# Altium schematic symbol library Triac_Thyristor.SchLib: 52 symbols
Pins are listed as number, name and electrical type; pins without a type are passive.

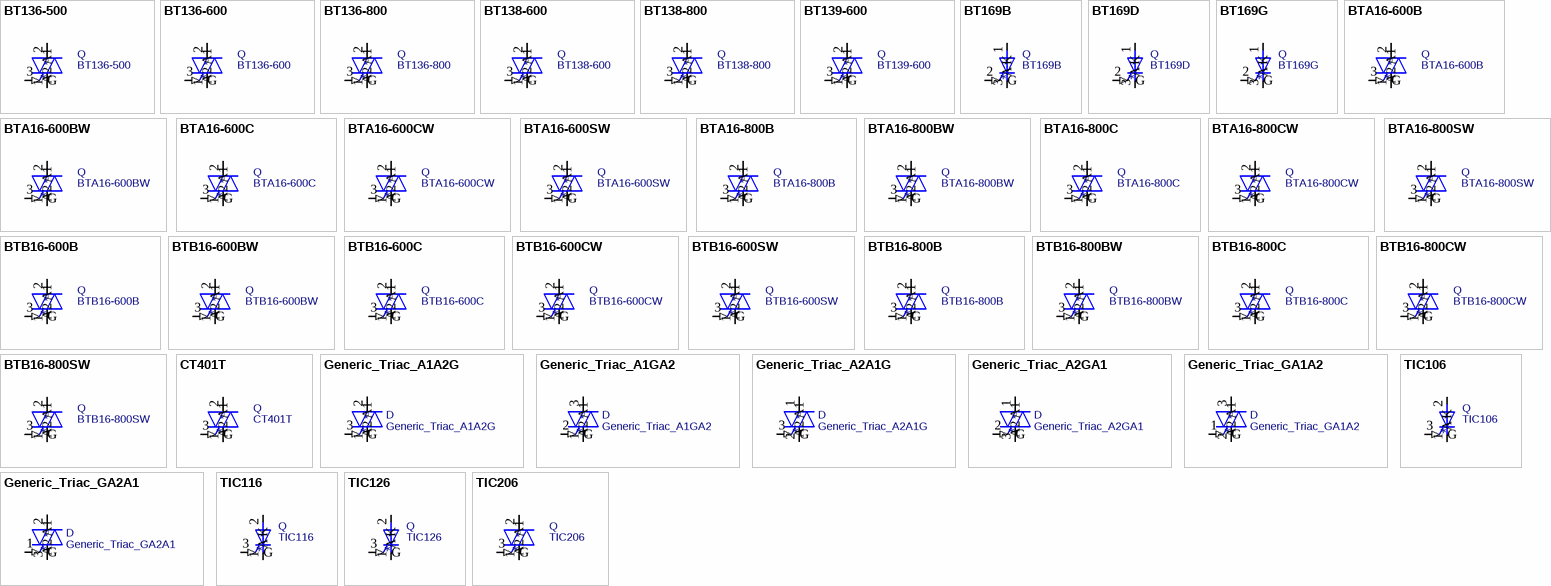
[diagram p0: symbols BT136-500 to TIC206]

## BT136-500
designator *  value BT136-500  Reference: Q
4A RMS, 500V Off-State Voltage, Triac, TO-220; ki_fp_filters: TO?220*; Footprint: Package_TO_SOT_THT:TO-220-3_Vertical; Datasheet: http://www.micropik.com/PDF/BT136-600.pdf; Description_: 4A RMS, 500V Off-State Voltage, Triac, TO-220; ki_keywords: Triac
pins: 1 A1, 2 A2, 3 G (in)

## BT136-600
designator *  value BT136-600  Reference: Q
4A RMS, 500V Off-State Voltage, Triac, TO-220; ki_fp_filters: TO?220*; Footprint: Package_TO_SOT_THT:TO-220-3_Vertical; Datasheet: http://www.micropik.com/PDF/BT136-600.pdf; Description_: 4A RMS, 500V Off-State Voltage, Triac, TO-220; ki_keywords: Triac
pins: 1 A1, 2 A2, 3 G (in)

## BT136-800
designator *  value BT136-800  Reference: Q
4A RMS, 800V Off-State Voltage, Triac, TO-220; ki_fp_filters: TO?220*; Footprint: Package_TO_SOT_THT:TO-220-3_Vertical; Datasheet: http://www.micropik.com/PDF/BT136-600.pdf; Description_: 4A RMS, 800V Off-State Voltage, Triac, TO-220; ki_keywords: Triac
pins: 1 A1, 2 A2, 3 G (in)

## BT138-600
designator *  value BT138-600  Reference: Q
12A RMS, 600V Off-State Voltage, Triac, TO-220; ki_fp_filters: TO?220*; Footprint: Package_TO_SOT_THT:TO-220-3_Vertical; Datasheet: https://assets.nexperia.com/documents/data-sheet/BT138_SER_D_E.pdf; Description_: 12A RMS, 600V Off-State Voltage, Triac, TO-220; ki_keywords: Triac
pins: 1 A1, 2 A2, 3 G (in)

## BT138-800
designator *  value BT138-800  Reference: Q
12A RMS, 800V Off-State Voltage, Triac, TO-220; ki_fp_filters: TO?220*; Footprint: Package_TO_SOT_THT:TO-220-3_Vertical; Datasheet: https://assets.nexperia.com/documents/data-sheet/BT138_SER_D_E.pdf; Description_: 12A RMS, 800V Off-State Voltage, Triac, TO-220; ki_keywords: Triac
pins: 1 A1, 2 A2, 3 G (in)

## BT139-600
designator *  value BT139-600  Reference: Q
16A RMS, 600V Off-State Voltage, 4Q Triac, TO-220; ki_fp_filters: TO?220*; Footprint: Package_TO_SOT_THT:TO-220-3_Vertical; Datasheet: https://www.rapidonline.com/pdf/47-3240.pdf; Description_: 16A RMS, 600V Off-State Voltage, 4Q Triac, TO-220; ki_keywords: Triac
pins: 1 A1, 2 A2, 3 G (in)

## BT169B
designator *  value BT169B  Reference: Q
0.5A Ion, 200V Voff, Thyristors logic level, Silicon Controlled Rectifier (Thyristor), TO-92; ki_keywords: thyristor logic level; ki_fp_filters: TO?92*Inline*Narrow*; Footprint: Package_TO_SOT_THT:TO-92_Inline; Datasheet: https://media.digikey.com/pdf/Data%20Sheets/NXP%20PDFs/BT169_Series.pdf; Description_: 0.5A Ion, 200V Voff, Thyristors logic level, Silicon Controlled Rectifier (Thyristor), TO-92
pins: 1 A, 2 G (in), 3 K

## BT169D
designator *  value BT169D  Reference: Q
0.5A Ion, 400V Voff, Thyristors logic level, Silicon Controlled Rectifier (Thyristor), TO-92; ki_keywords: thyristor logic level; ki_fp_filters: TO?92*Inline*Narrow*; Footprint: Package_TO_SOT_THT:TO-92_Inline; Datasheet: https://media.digikey.com/pdf/Data%20Sheets/NXP%20PDFs/BT169_Series.pdf; Description_: 0.5A Ion, 400V Voff, Thyristors logic level, Silicon Controlled Rectifier (Thyristor), TO-92
pins: 1 A, 2 G (in), 3 K

## BT169G
designator *  value BT169G  Reference: Q
0.5A Ion, 600V Voff, Thyristors logic level, Silicon Controlled Rectifier (Thyristor), TO-92; ki_keywords: thyristor logic level; ki_fp_filters: TO?92*Inline*Narrow*; Footprint: Package_TO_SOT_THT:TO-92_Inline; Datasheet: https://media.digikey.com/pdf/Data%20Sheets/NXP%20PDFs/BT169_Series.pdf; Description_: 0.5A Ion, 600V Voff, Thyristors logic level, Silicon Controlled Rectifier (Thyristor), TO-92
pins: 1 A, 2 G (in), 3 K

## BTA16-600B
designator *  value BTA16-600B  Reference: Q
16A RMS, 600V Off-State Voltage, 50mA Sensitivity, Insulated, Triac, TO-220; ki_fp_filters: TO?220*; Footprint: Package_TO_SOT_THT:TO-220-3_Vertical; Datasheet: https://www.st.com/resource/en/datasheet/bta16.pdf; Description_: 16A RMS, 600V Off-State Voltage, 50mA Sensitivity, Insulated, Triac, TO-220; ki_keywords: Triac
pins: 1 A1, 2 A2, 3 G (in)

## BTA16-600BW
designator *  value BTA16-600BW  Reference: Q
16A RMS, 600V Off-State Voltage, 50mA Sensitivity, Snubberless, Insulated, Triac, TO-220; ki_fp_filters: TO?220*; Footprint: Package_TO_SOT_THT:TO-220-3_Vertical; Datasheet: https://www.st.com/resource/en/datasheet/bta16.pdf; Description_: 16A RMS, 600V Off-State Voltage, 50mA Sensitivity, Snubberless, Insulated, Triac, TO-220; ki_keywords: Triac
pins: 1 A1, 2 A2, 3 G (in)

## BTA16-600C
designator *  value BTA16-600C  Reference: Q
16A RMS, 600V Off-State Voltage, 35mA Sensitivity, Insulated, Triac, TO-220; ki_fp_filters: TO?220*; Footprint: Package_TO_SOT_THT:TO-220-3_Vertical; Datasheet: https://www.st.com/resource/en/datasheet/bta16.pdf; Description_: 16A RMS, 600V Off-State Voltage, 35mA Sensitivity, Insulated, Triac, TO-220; ki_keywords: Triac
pins: 1 A1, 2 A2, 3 G (in)

## BTA16-600CW
designator *  value BTA16-600CW  Reference: Q
16A RMS, 600V Off-State Voltage, 35mA Sensitivity, Snubberless, Insulated, Triac, TO-220; ki_fp_filters: TO?220*; Footprint: Package_TO_SOT_THT:TO-220-3_Vertical; Datasheet: https://www.st.com/resource/en/datasheet/bta16.pdf; Description_: 16A RMS, 600V Off-State Voltage, 35mA Sensitivity, Snubberless, Insulated, Triac, TO-220; ki_keywords: Triac
pins: 1 A1, 2 A2, 3 G (in)

## BTA16-600SW
designator *  value BTA16-600SW  Reference: Q
16A RMS, 600V Off-State Voltage, 10mA Sensitivity, Snubberless, Insulated, Triac, TO-220; ki_fp_filters: TO?220*; Footprint: Package_TO_SOT_THT:TO-220-3_Vertical; Datasheet: https://www.st.com/resource/en/datasheet/bta16.pdf; Description_: 16A RMS, 600V Off-State Voltage, 10mA Sensitivity, Snubberless, Insulated, Triac, TO-220; ki_keywords: Triac
pins: 1 A1, 2 A2, 3 G (in)

## BTA16-800B
designator *  value BTA16-800B  Reference: Q
16A RMS, 800V Off-State Voltage, 50mA Sensitivity, Insulated, Triac, TO-220; ki_fp_filters: TO?220*; Footprint: Package_TO_SOT_THT:TO-220-3_Vertical; Datasheet: https://www.st.com/resource/en/datasheet/bta16.pdf; Description_: 16A RMS, 800V Off-State Voltage, 50mA Sensitivity, Insulated, Triac, TO-220; ki_keywords: Triac
pins: 1 A1, 2 A2, 3 G (in)

## BTA16-800BW
designator *  value BTA16-800BW  Reference: Q
16A RMS, 800V Off-State Voltage, 50mA Sensitivity, Snubberless, Insulated, Triac, TO-220; ki_fp_filters: TO?220*; Footprint: Package_TO_SOT_THT:TO-220-3_Vertical; Datasheet: https://www.st.com/resource/en/datasheet/bta16.pdf; Description_: 16A RMS, 800V Off-State Voltage, 50mA Sensitivity, Snubberless, Insulated, Triac, TO-220; ki_keywords: Triac
pins: 1 A1, 2 A2, 3 G (in)

## BTA16-800C
designator *  value BTA16-800C  Reference: Q
16A RMS, 800V Off-State Voltage, 35mA Sensitivity, Insulated, Triac, TO-220; ki_fp_filters: TO?220*; Footprint: Package_TO_SOT_THT:TO-220-3_Vertical; Datasheet: https://www.st.com/resource/en/datasheet/bta16.pdf; Description_: 16A RMS, 800V Off-State Voltage, 35mA Sensitivity, Insulated, Triac, TO-220; ki_keywords: Triac
pins: 1 A1, 2 A2, 3 G (in)

## BTA16-800CW
designator *  value BTA16-800CW  Reference: Q
16A RMS, 800V Off-State Voltage, 35mA Sensitivity, Snubberless, Insulated, Triac, TO-220; ki_fp_filters: TO?220*; Footprint: Package_TO_SOT_THT:TO-220-3_Vertical; Datasheet: https://www.st.com/resource/en/datasheet/bta16.pdf; Description_: 16A RMS, 800V Off-State Voltage, 35mA Sensitivity, Snubberless, Insulated, Triac, TO-220; ki_keywords: Triac
pins: 1 A1, 2 A2, 3 G (in)

## BTA16-800SW
designator *  value BTA16-800SW  Reference: Q
16A RMS, 800V Off-State Voltage, 10mA Sensitivity, Snubberless, Insulated, Triac, TO-220; ki_fp_filters: TO?220*; Footprint: Package_TO_SOT_THT:TO-220-3_Vertical; Datasheet: https://www.st.com/resource/en/datasheet/bta16.pdf; Description_: 16A RMS, 800V Off-State Voltage, 10mA Sensitivity, Snubberless, Insulated, Triac, TO-220; ki_keywords: Triac
pins: 1 A1, 2 A2, 3 G (in)

## BTB16-600B
designator *  value BTB16-600B  Reference: Q
16A RMS, 600V Off-State Voltage, 50mA Sensitivity, Non-Insulated, Triac, TO-220; ki_fp_filters: TO?220*; Footprint: Package_TO_SOT_THT:TO-220-3_Vertical; Datasheet: https://www.st.com/resource/en/datasheet/bta16.pdf; Description_: 16A RMS, 600V Off-State Voltage, 50mA Sensitivity, Non-Insulated, Triac, TO-220; ki_keywords: Triac
pins: 1 A1, 2 A2, 3 G (in)

## BTB16-600BW
designator *  value BTB16-600BW  Reference: Q
16A RMS, 600V Off-State Voltage, 50mA Sensitivity, Snubberless, Non-Insulated, Triac, TO-220; ki_fp_filters: TO?220*; Footprint: Package_TO_SOT_THT:TO-220-3_Vertical; Datasheet: https://www.st.com/resource/en/datasheet/bta16.pdf; Description_: 16A RMS, 600V Off-State Voltage, 50mA Sensitivity, Snubberless, Non-Insulated, Triac, TO-220; ki_keywords: Triac
pins: 1 A1, 2 A2, 3 G (in)

## BTB16-600C
designator *  value BTB16-600C  Reference: Q
16A RMS, 600V Off-State Voltage, 35mA Sensitivity, Non-Insulated, Triac, TO-220; ki_fp_filters: TO?220*; Footprint: Package_TO_SOT_THT:TO-220-3_Vertical; Datasheet: https://www.st.com/resource/en/datasheet/bta16.pdf; Description_: 16A RMS, 600V Off-State Voltage, 35mA Sensitivity, Non-Insulated, Triac, TO-220; ki_keywords: Triac
pins: 1 A1, 2 A2, 3 G (in)

## BTB16-600CW
designator *  value BTB16-600CW  Reference: Q
16A RMS, 600V Off-State Voltage, 35mA Sensitivity, Snubberless, Non-Insulated, Triac, TO-220; ki_fp_filters: TO?220*; Footprint: Package_TO_SOT_THT:TO-220-3_Vertical; Datasheet: https://www.st.com/resource/en/datasheet/bta16.pdf; Description_: 16A RMS, 600V Off-State Voltage, 35mA Sensitivity, Snubberless, Non-Insulated, Triac, TO-220; ki_keywords: Triac
pins: 1 A1, 2 A2, 3 G (in)

## BTB16-600SW
designator *  value BTB16-600SW  Reference: Q
16A RMS, 600V Off-State Voltage, 10mA Sensitivity, Snubberless, Non-Insulated, Triac, TO-220; ki_fp_filters: TO?220*; Footprint: Package_TO_SOT_THT:TO-220-3_Vertical; Datasheet: https://www.st.com/resource/en/datasheet/bta16.pdf; Description_: 16A RMS, 600V Off-State Voltage, 10mA Sensitivity, Snubberless, Non-Insulated, Triac, TO-220; ki_keywords: Triac
pins: 1 A1, 2 A2, 3 G (in)

## BTB16-800B
designator *  value BTB16-800B  Reference: Q
16A RMS, 800V Off-State Voltage, 50mA Sensitivity, Non-Insulated, Triac, TO-220; ki_fp_filters: TO?220*; Footprint: Package_TO_SOT_THT:TO-220-3_Vertical; Datasheet: https://www.st.com/resource/en/datasheet/bta16.pdf; Description_: 16A RMS, 800V Off-State Voltage, 50mA Sensitivity, Non-Insulated, Triac, TO-220; ki_keywords: Triac
pins: 1 A1, 2 A2, 3 G (in)

## BTB16-800BW
designator *  value BTB16-800BW  Reference: Q
16A RMS, 800V Off-State Voltage, 50mA Sensitivity, Snubberless, Non-Insulated, Triac, TO-220; ki_fp_filters: TO?220*; Footprint: Package_TO_SOT_THT:TO-220-3_Vertical; Datasheet: https://www.st.com/resource/en/datasheet/bta16.pdf; Description_: 16A RMS, 800V Off-State Voltage, 50mA Sensitivity, Snubberless, Non-Insulated, Triac, TO-220; ki_keywords: Triac
pins: 1 A1, 2 A2, 3 G (in)

## BTB16-800C
designator *  value BTB16-800C  Reference: Q
16A RMS, 800V Off-State Voltage, 35mA Sensitivity, Non-Insulated, Triac, TO-220; ki_fp_filters: TO?220*; Footprint: Package_TO_SOT_THT:TO-220-3_Vertical; Datasheet: https://www.st.com/resource/en/datasheet/bta16.pdf; Description_: 16A RMS, 800V Off-State Voltage, 35mA Sensitivity, Non-Insulated, Triac, TO-220; ki_keywords: Triac
pins: 1 A1, 2 A2, 3 G (in)

## BTB16-800CW
designator *  value BTB16-800CW  Reference: Q
16A RMS, 800V Off-State Voltage, 35mA Sensitivity, Snubberless, Non-Insulated, Triac, TO-220; ki_fp_filters: TO?220*; Footprint: Package_TO_SOT_THT:TO-220-3_Vertical; Datasheet: https://www.st.com/resource/en/datasheet/bta16.pdf; Description_: 16A RMS, 800V Off-State Voltage, 35mA Sensitivity, Snubberless, Non-Insulated, Triac, TO-220; ki_keywords: Triac
pins: 1 A1, 2 A2, 3 G (in)

## BTB16-800SW
designator *  value BTB16-800SW  Reference: Q
16A RMS, 800V Off-State Voltage, 10mA Sensitivity, Snubberless, Non-Insulated, Triac, TO-220; ki_fp_filters: TO?220*; Footprint: Package_TO_SOT_THT:TO-220-3_Vertical; Datasheet: https://www.st.com/resource/en/datasheet/bta16.pdf; Description_: 16A RMS, 800V Off-State Voltage, 10mA Sensitivity, Snubberless, Non-Insulated, Triac, TO-220; ki_keywords: Triac
pins: 1 A1, 2 A2, 3 G (in)

## CT401T
designator *  value CT401T  Reference: Q
1A RMS, 600-800V Off-State Voltage, 1.55V On-State Voltage, Triac, SOT-223; ki_fp_filters: SOT?223*; Footprint: Package_TO_SOT_SMD:SOT-223; Datasheet: https://www.jscj-elec.com/gallery//file/CT401T-600%20SOT-223-3LK%20V1.pdf; Description_: 1A RMS, 600-800V Off-State Voltage, 1.55V On-State Voltage, Triac, SOT-223; ki_keywords: Triac
pins: 1 A1, 2 A2, 3 G (in)

## Generic_Triac_A1A2G
designator *  value Generic_Triac_A1A2G  Reference: D
Triode for alternating current, anode1/anode2/gate; ki_keywords: TRIAC; Datasheet: ~; Description_: Triode for alternating current, anode1/anode2/gate
pins: 1 A1, 2 A2, 3 G (in)

## Generic_Triac_A1GA2
designator *  value Generic_Triac_A1GA2  Reference: D
Triode for alternating current, anode1/gate/anode2; ki_keywords: TRIAC; Datasheet: ~; Description_: Triode for alternating current, anode1/gate/anode2
pins: 1 A1, 2 G (in), 3 A2

## Generic_Triac_A2A1G
designator *  value Generic_Triac_A2A1G  Reference: D
Triode for alternating current, anode2/anode1/gate; ki_keywords: TRIAC; Datasheet: ~; Description_: Triode for alternating current, anode2/anode1/gate
pins: 1 A2, 2 A1, 3 G (in)

## Generic_Triac_A2GA1
designator *  value Generic_Triac_A2GA1  Reference: D
Triode for alternating current, anode2/gate/anode1; ki_keywords: TRIAC; Datasheet: ~; Description_: Triode for alternating current, anode2/gate/anode1
pins: 1 A2, 2 G (in), 3 A1

## Generic_Triac_GA1A2
designator *  value Generic_Triac_GA1A2  Reference: D
Triode for alternating current, gate/anode1/anode2; ki_keywords: TRIAC; Datasheet: ~; Description_: Triode for alternating current, gate/anode1/anode2
pins: 1 G (in), 2 A1, 3 A2

## Generic_Triac_GA2A1
designator *  value Generic_Triac_GA2A1  Reference: D
Triode for alternating current, gate/anode2/anode1; ki_keywords: TRIAC; Datasheet: ~; Description_: Triode for alternating current, gate/anode2/anode1
pins: 1 G (in), 2 A2, 3 A1

## TIC106
designator *  value TIC106  Reference: Q
5A Ion, 400-800V Voff, Silicon Controlled Rectifier (Thyristor), TO-220; ki_fp_filters: TO?220*; Footprint: Package_TO_SOT_THT:TO-220-3_Vertical; Datasheet: http://pdf.datasheetcatalog.com/datasheet/PowerInnovations/mXyzrtvs.pdf; Description_: 5A Ion, 400-800V Voff, Silicon Controlled Rectifier (Thyristor), TO-220; ki_keywords: thyristor
pins: 1 K, 2 A, 3 G (in)

## TIC116
designator *  value TIC116  Reference: Q
8A Ion, 400-800V Voff, Silicon Controlled Rectifier (Thyristor), TO-220; ki_fp_filters: TO?220*; Footprint: Package_TO_SOT_THT:TO-220-3_Vertical; Datasheet: https://www.princeton.edu/~mae412/HANDOUTS/Datasheets/TIC116.pdf; Description_: 8A Ion, 400-800V Voff, Silicon Controlled Rectifier (Thyristor), TO-220; ki_keywords: thyristor
pins: 1 K, 2 A, 3 G (in)

## TIC126
designator *  value TIC126  Reference: Q
12A Ion, 400-800V Voff, Silicon Controlled Rectifier (Thyristor), TO-220; ki_fp_filters: TO?220*; Footprint: Package_TO_SOT_THT:TO-220-3_Vertical; Datasheet: https://cdn-reichelt.de/documents/datenblatt/A400/TIC126.pdf; Description_: 12A Ion, 400-800V Voff, Silicon Controlled Rectifier (Thyristor), TO-220; ki_keywords: thyristor
pins: 1 K, 2 A, 3 G (in)

## TIC206
designator *  value TIC206  Reference: Q
4A RMS, 400-700V Off-State Voltage, Sensitive Gate Triac, TO-220; ki_fp_filters: TO?220*; Footprint: Package_TO_SOT_THT:TO-220-3_Vertical; Datasheet: http://www.farnell.com/datasheets/56922.pdf; Description_: 4A RMS, 400-700V Off-State Voltage, Sensitive Gate Triac, TO-220; ki_keywords: Triac
pins: 1 A1, 2 A2, 3 G (in)

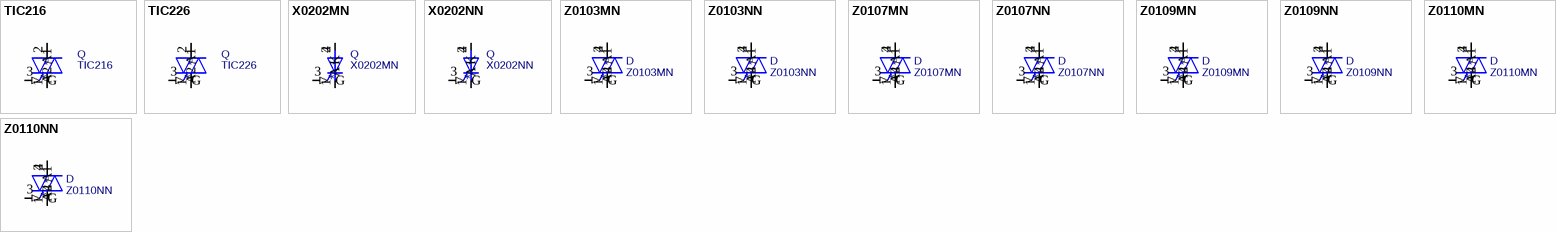
[diagram p1: symbols TIC216 to Z0110NN]

## TIC216
designator *  value TIC216  Reference: Q
6A RMS, 400-800V Off-State Voltage, Triac, TO-220; ki_fp_filters: TO?220*; Footprint: Package_TO_SOT_THT:TO-220-3_Vertical; Datasheet: http://www.mouser.com/ds/2/54/tic216-37811.pdf; Description_: 6A RMS, 400-800V Off-State Voltage, Triac, TO-220; ki_keywords: Triac
pins: 1 A1, 2 A2, 3 G (in)

## TIC226
designator *  value TIC226  Reference: Q
8A RMS, 400-800V Off-State Voltage, Triac, TO-220; ki_fp_filters: TO?220*; Footprint: Package_TO_SOT_THT:TO-220-3_Vertical; Datasheet: http://pdf.datasheetcatalog.com/datasheet/PowerInnovations/mXuqxvy.pdf; Description_: 8A RMS, 400-800V Off-State Voltage, Triac, TO-220; ki_keywords: Triac
pins: 1 A1, 2 A2, 3 G (in)

## X0202MN
designator *  value X0202MN  Reference: Q
1.25A Ion, 600 Voff, Silicon Controlled Rectifier (Thyristor), SOT-223; ki_fp_filters: SOT?223*; Footprint: Package_TO_SOT_SMD:SOT-223; Datasheet: https://www.st.com/resource/en/datasheet/x02.pdf; Description_: 1.25A Ion, 600 Voff, Silicon Controlled Rectifier (Thyristor), SOT-223; ki_keywords: thyristor
pins: 1 K, 2 A, 3 G (in), 4 A

## X0202NN
designator *  value X0202NN  Reference: Q
1.25A Ion, 800 Voff, Silicon Controlled Rectifier (Thyristor), SOT-223; ki_fp_filters: SOT?223*; Footprint: Package_TO_SOT_SMD:SOT-223; Datasheet: https://www.st.com/resource/en/datasheet/x02.pdf; Description_: 1.25A Ion, 800 Voff, Silicon Controlled Rectifier (Thyristor), SOT-223; ki_keywords: thyristor
pins: 1 K, 2 A, 3 G (in), 4 A

## Z0103MN
designator *  value Z0103MN  Reference: D
4Q Triac, 1A RMS, 600V VDRM, 3mA Igt, 7mA Ih, SOT-223; ki_fp_filters: SOT*223*; Footprint: Package_TO_SOT_SMD:SOT-223; Datasheet: http://www.st.com/resource/en/datasheet/z01.pdf; Description_: 4Q Triac, 1A RMS, 600V VDRM, 3mA Igt, 7mA Ih, SOT-223; ki_keywords: 4Q Triac
pins: 1 A1, 2 A2, 3 G (in), 4 A4

## Z0103NN
designator *  value Z0103NN  Reference: D
4Q Triac, 1A RMS, 800V VDRM, 3mA Igt, 7mA Ih, SOT-223; ki_fp_filters: SOT*223*; Footprint: Package_TO_SOT_SMD:SOT-223; Datasheet: http://www.st.com/resource/en/datasheet/z01.pdf; Description_: 4Q Triac, 1A RMS, 800V VDRM, 3mA Igt, 7mA Ih, SOT-223; ki_keywords: 4Q Triac
pins: 1 A1, 2 A2, 3 G (in), 4 A4

## Z0107MN
designator *  value Z0107MN  Reference: D
4Q Triac, 1A RMS, 600V VDRM, 5mA Igt, 10mA Ih, SOT-223; ki_fp_filters: SOT*223*; Footprint: Package_TO_SOT_SMD:SOT-223; Datasheet: http://www.st.com/resource/en/datasheet/z01.pdf; Description_: 4Q Triac, 1A RMS, 600V VDRM, 5mA Igt, 10mA Ih, SOT-223; ki_keywords: 4Q Triac
pins: 1 A1, 2 A2, 3 G (in), 4 A4

## Z0107NN
designator *  value Z0107NN  Reference: D
4Q Triac, 1A RMS, 800V VDRM, 5mA Igt, 10mA Ih, SOT-223; ki_fp_filters: SOT*223*; Footprint: Package_TO_SOT_SMD:SOT-223; Datasheet: http://www.st.com/resource/en/datasheet/z01.pdf; Description_: 4Q Triac, 1A RMS, 800V VDRM, 5mA Igt, 10mA Ih, SOT-223; ki_keywords: 4Q Triac
pins: 1 A1, 2 A2, 3 G (in), 4 A4

## Z0109MN
designator *  value Z0109MN  Reference: D
4Q Triac, 1A RMS, 600V VDRM, 10mA Igt, 10mA Ih, SOT-223; ki_fp_filters: SOT*223*; Footprint: Package_TO_SOT_SMD:SOT-223; Datasheet: http://www.st.com/resource/en/datasheet/z01.pdf; Description_: 4Q Triac, 1A RMS, 600V VDRM, 10mA Igt, 10mA Ih, SOT-223; ki_keywords: 4Q Triac
pins: 1 A1, 2 A2, 3 G (in), 4 A4

## Z0109NN
designator *  value Z0109NN  Reference: D
4Q Triac, 1A RMS, 800V VDRM, 10mA Igt, 10mA Ih, SOT-223; ki_fp_filters: SOT*223*; Footprint: Package_TO_SOT_SMD:SOT-223; Datasheet: http://www.st.com/resource/en/datasheet/z01.pdf; Description_: 4Q Triac, 1A RMS, 800V VDRM, 10mA Igt, 10mA Ih, SOT-223; ki_keywords: 4Q Triac
pins: 1 A1, 2 A2, 3 G (in), 4 A4

## Z0110MN
designator *  value Z0110MN  Reference: D
4Q Triac, 1A RMS, 600V VDRM, 25mA Igt, 25mA Ih, SOT-223; ki_fp_filters: SOT*223*; Footprint: Package_TO_SOT_SMD:SOT-223; Datasheet: http://www.st.com/resource/en/datasheet/z01.pdf; Description_: 4Q Triac, 1A RMS, 600V VDRM, 25mA Igt, 25mA Ih, SOT-223; ki_keywords: 4Q Triac
pins: 1 A1, 2 A2, 3 G (in), 4 A4

## Z0110NN
designator *  value Z0110NN  Reference: D
4Q Triac, 1A RMS, 800V VDRM, 25mA Igt, 25mA Ih, SOT-223; ki_fp_filters: SOT*223*; Footprint: Package_TO_SOT_SMD:SOT-223; Datasheet: http://www.st.com/resource/en/datasheet/z01.pdf; Description_: 4Q Triac, 1A RMS, 800V VDRM, 25mA Igt, 25mA Ih, SOT-223; ki_keywords: 4Q Triac
pins: 1 A1, 2 A2, 3 G (in), 4 A4